# Altium schematic symbol library SP3T_6pin.SchLib: 1 symbol
Pins are listed as number, name and electrical type; pins without a type are passive.

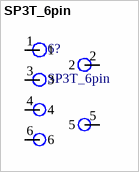
[diagram p0: symbol SP3T_6pin]

## SP3T_6pin
designator 6?
pins: 1, 2, 3, 4, 5, 6